# Altium footprint library TBHDR1XM.PcbLib: 15 footprints
Each footprint in its own frame and in the unit in brackets; x right, y up, seen from the top. Pads: shape width x height; smd on the part's side, far side on the other; paste and mask are expansions set on the pad; w line width, h text height; cw(c..) or ccw(c..) is an arc to the next point about the centre after c.
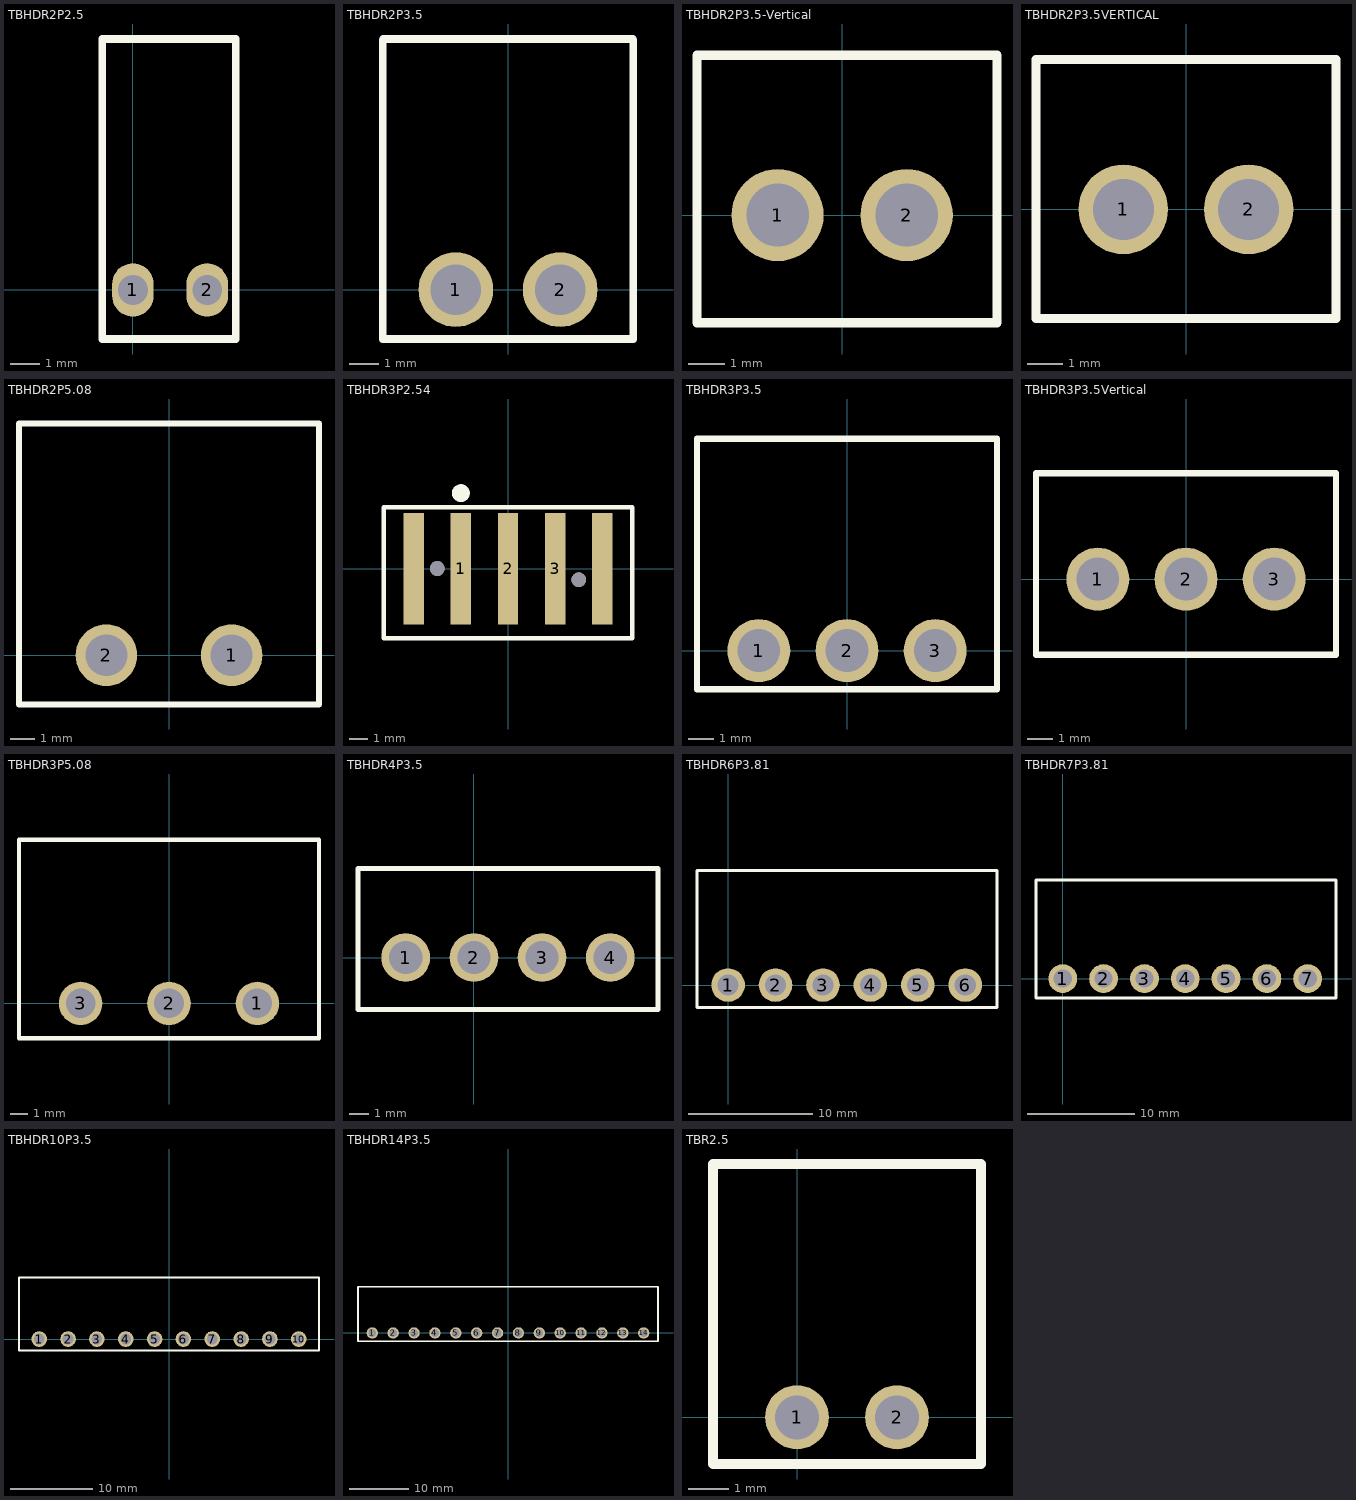
[diagram p0: the footprints below, top view; thin cyan lines are the x and y axes]

## TBHDR2P2.5 [mm] "Connector Green 2 positions with pitch 2.5mm"
pads (2):
  oval 1.4x1.8 hole 1: 1(0,0) 2(2.5,0)
Top Overlay:
  lines w0.254: -1.035,-1.651 -1.035,8.449 3.465,8.449 3.465,-1.651 -1.035,-1.651

## TBHDR2P3.5 [mm] "Connector Green 2 positions with pitch 3.5mm"
pads (2):
  round 2.5 hole 1.7: 1(-1.75,0) 2(1.75,0)
Top Overlay:
  lines w0.254: -4.2,-1.651 4.2,-1.651 4.2,8.373 4.173,8.4 -4.173,8.4 -4.2,8.373 -4.2,-1.651
3D body: height 7.05, standoff -3.45, extent -4.2,-1.778 4.2,8.922

## TBHDR2P3.5-Vertical [mm] "Connector Green 2 positions with pitch 3.5mm"
pads (2):
  round 2.5 hole 1.7: 1(-1.75,0) 2(1.75,0)
Top Overlay:
  lines w0.254: -3.937,-2.921 -3.937,4.335 4.2,4.335 4.2,-2.921 -3.937,-2.921
3D body: height 9.6, standoff -3.1, extent -3.923,-2.838 4.177,4.362

## TBHDR2P3.5VERTICAL [mm]
pads (2):
  round 2.5 hole 1.7: 1(-1.75,0) 2(1.75,0)
Top Overlay:
  lines w0.254: -4.191,-3.048 -4.191,4.191 4.191,4.191 4.191,-3.048 -4.191,-3.048
3D body: height 9.25, standoff -3.75, extent -4.2,-3.048 4.2,4.202

## TBHDR2P5.08 [mm] "Connector Green 2 positions with pitch 5.08mm"
pads (2):
  round 2.5 hole 1.7: 1(2.54,0) 2(-2.54,0)
Top Overlay:
  lines w0.254: -6.08,-2 6.08,-2 6.08,9.398 -6.08,9.398 -6.08,-2
3D body: height 8.65, standoff -3.45, extent -6,-2.032 6,9.968

## TBHDR3P2.54 [mm] "Terminal block 2 positions with pitch 2.54mm"
pads (7):
  rect 1.1x6 smd: 1(-2.54,0) 2(0,0) 3(2.54,0) ""(-5.08,0) ""(5.08,0)
  round 0.8 hole 0.8: ""(-3.81,0) ""(3.81,-0.6)
Top Overlay:
  circle w0.6: c-2.54,4.064 r0.18
  lines w0.254: -6.69,-3.75 6.69,-3.75 6.69,3.3 -6.69,3.3 -6.69,-3.75
3D body: height 6.45, standoff -0.55, extent -6.462,-3.429 6.462,2.471

## TBHDR3P3.5 [mm] "Connector Green 3 positions with pitch 3.5mm"
pads (3):
  round 2.5 hole 1.7: 1(-3.5,0) 2(0,0) 3(3.5,0)
Top Overlay:
  lines w0.254: -5.95,8.382 -5.95,-1.524 5.95,-1.524 5.95,8.382 ; -5.95,8.4 5.95,8.4
3D body: height 7.1, standoff -3.4, extent -5.95,-1.651 5.95,9.049

## TBHDR3P3.5Vertical [mm]
pads (3):
  round 2.5 hole 1.7: 1(-3.5,0) 2(0,0) 3(3.5,0)
Top Overlay:
  lines w0.254: -5.95,-3 -5.95,4.2 5.95,4.2 5.95,-3 -5.95,-3
3D body: height 9.2, standoff -3.8, extent -5.95,-2.921 5.95,4.329

## TBHDR3P5.08 [mm] "Connector Green 3 positions with pitch 5.08mm"
pads (3):
  round 2.5 hole 1.7: 1(5.08,0) 2(0,0) 3(-5.08,0)
Top Overlay:
  lines w0.254: -8.62,-2 8.62,-2 8.62,9.398 -8.62,9.398 -8.62,-2
3D body: height 8.55, standoff -3.45, extent -8.5,-2.032 8.5,9.968

## TBHDR4P3.5 [mm] "Connector Green 4 positions with pitch 3.5mm"
pads (4):
  round 2.5 hole 1.7: 1(-3.5,0) 2(0,0) 3(3.5,0) 4(7,0)
Top Overlay:
  lines w0.254: -5.95,-2.667 -5.95,4.572 9.45,4.572 9.45,-2.667 -5.95,-2.667
3D body: height 4.6, standoff -8.1, extent -5.772,-2.711 9.328,4.489

## TBHDR6P3.81 [mm]
pads (6):
  round 2.7 hole 1.7: 1(0,0) 2(3.81,0) 3(7.62,0) 4(11.43,0) 5(15.24,0) 6(19.05,0)
Top Overlay:
  lines w0.254: 21.6,-1.8 21.6,9.2 -2.5,9.2 -2.5,-1.8 21.6,-1.8 ; 21.6,-1.8 21.6,-1.8

## TBHDR7P3.81 [mm]
pads (7):
  round 2.7 hole 1.7: 1(0,0) 2(3.81,0) 3(7.62,0) 4(11.43,0) 5(15.24,0) 6(19.05,0) 7(22.86,0)
Top Overlay:
  lines w0.254: 25.5,-1.8 25.5,9.2 -2.5,9.2 -2.5,-1.8 25.5,-1.8 ; 25.5,-1.8 25.5,-1.8

## TBHDR10P3.5 [mm]
pads (10):
  round 1.9 hole 1.3: 1(-15.75,0) 2(-12.25,0) 3(-8.75,0) 4(-5.25,0) 5(-1.75,0) 6(1.75,0) 7(5.25,0) 8(8.75,0) 9(12.25,0) 10(15.75,0)
Top Overlay:
  lines w0.254: -18.2,-1.397 18.2,-1.397 18.2,7.47 -18.2,7.47 -18.2,-1.397
3D body: height 7.28, standoff -3.37, extent -18.2,-1.27 18.2,7.93

## TBHDR14P3.5 [mm]
pads (14):
  round 1.9 hole 1.3: 1(-22.75,0) 2(-19.25,0) 3(-15.75,0) 4(-12.25,0) 5(-8.75,0) 6(-5.25,0) 7(-1.75,0) 8(1.75,0) 9(5.25,0) 10(8.75,0) 11(12.25,0) 12(15.75,0) 13(19.25,0) 14(22.75,0)
Top Overlay:
  lines w0.254: -25.146,-1.397 -25.146,-0.254 -25.146,7.747 25.146,7.747 25.146,-1.397 -25.146,-1.397
3D body: height 6.86, standoff -3.56, extent -25.197,-1.27 25.197,7.874

## TBR2.5 [mm]
height 5
pads (2):
  round 1.6 hole 1.1: 1(0,0) 2(2.5,0)
Top Overlay:
  lines w0.254: -2.1,-1.168 4.6,-1.168 4.6,6.332 -2.1,6.332 -2.1,-1.168